# Altium schematic symbol library SCH - DIODES - TVS_UNI_SP1305-02HTG.SCHLIB: 1 symbol
Pins are listed as number, name and electrical type; pins without a type are passive.

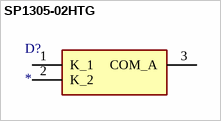
[diagram p0: symbol SP1305-02HTG]

## SP1305-02HTG
designator D?
Integrated Circuit; Manufacturer_Name: LITTELFUSE; Manufacturer_Part_Number: SP1305-02HTG; Description: ESD Suppressors / TVS Diodes 2CH 30KV 5V UNI TVS DIODE; Datasheet Link: https://componentsearchengine.com//SP1305-02HTG.pdf; Height: 1.1mm; Mouser Part Number: 576-SP1305-02HTG; Mouser Price/Stock: https://www.mouser.co.uk/ProductDetail/Littelfuse/SP1305-02HTG?qs=gZXFycFWdAPglsmB2C9SCw%3D%3D; Arrow Part Number: SP1305-02HTG; Arrow Price/Stock: https://www.arrow.com/en/products/sp1305-02htg/littelfuse
pins: 1 K_1, 2 K_2, 3 COM_A